# Altium footprint library MasterLibrary.PcbLib: 17 footprints (part 2 of 2)
Each footprint in its own frame and in the unit in brackets; x right, y up, seen from the top. Pads: shape width x height; smd on the part's side, far side on the other; paste and mask are expansions set on the pad; w line width, h text height; cw(c..) or ccw(c..) is an arc to the next point about the centre after c.
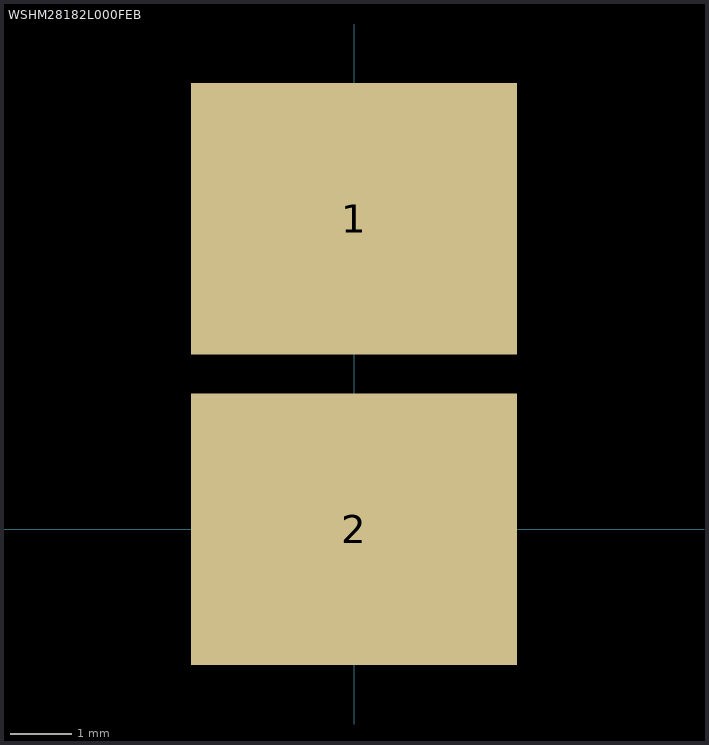
[diagram p1: the footprint, top view; thin cyan lines are the x and y axes]

## WSHM28182L000FEB [mil]
pads (2):
  rect 210x175 smd: 1(0,200) 2(0,0)
3D body "WSHM2818.STEP": height 58.53, standoff -0.47, extent -100,-45 90,245